# Altium footprint library BibliotecaASR1000.PcbLib: 3 footprints
Each footprint in its own frame and in the unit in brackets; x right, y up, seen from the top. Pads: shape width x height; smd on the part's side, far side on the other; paste and mask are expansions set on the pad; w line width, h text height; cw(c..) or ccw(c..) is an arc to the next point about the centre after c.
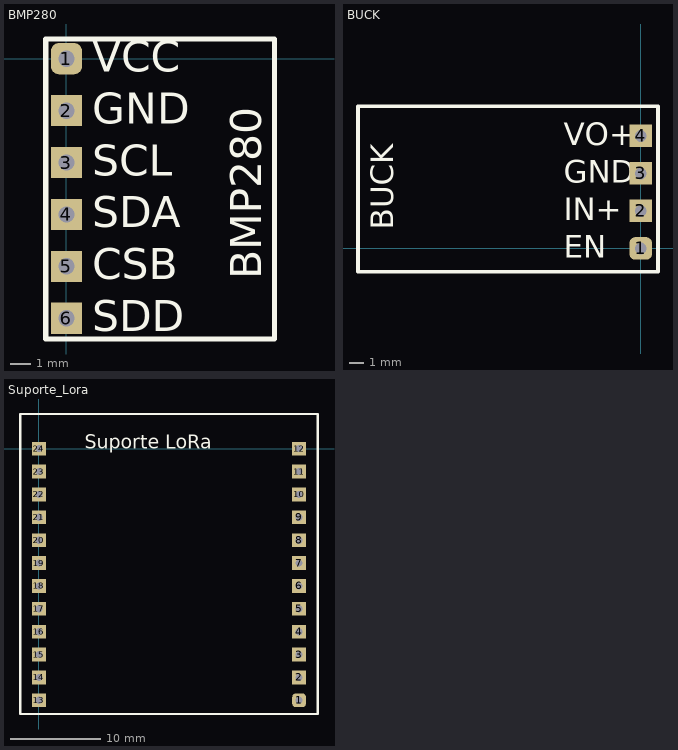
[diagram p0: the footprints below, top view; thin cyan lines are the x and y axes]

## BMP280 [mil] "BMP280 usado no projeto ASR1000."
pads (6):
  rrect50% 60x60 hole 31.5: 1(0,0)
  rect 60x60 hole 31.5: 2(0,-100) 3(0,-200) 4(0,-300) 5(0,-400) 6(0,-500)
Top Overlay:
  lines w10: -40,-540 401,-540 401,38 -40,38 -40,-540
  text "BMP280" at 375,-425 h60
  text "VCC" at 50,-25 h60
  text "SDD" at 50,-525 h60
  text "CSB" at 50,-425 h60
  text "SDA" at 50,-325 h60
  text "GND" at 50,-125 h60
  text "SCL" at 50,-225 h60

## BUCK [mil] "Buck usado no projeto ASR1000."
pads (4):
  rrect50% 60x60 hole 31.5: 1(0,0)
  rect 60x60 hole 31.5: 2(0,100) 3(0,200) 4(0,300)
Top Overlay:
  lines w10: -754,-62 -754,379 46,379 46,-62 -754,-62
  text "VO+" at -205,275 h60
  text "GND" at -205,175 h60
  text "IN+" at -205,75 h60
  text "EN" at -205,-25 h60
  text "BUCK" at -660,50 h60

## Suporte_Lora [mil] "Suporte do LoRa para o projeto ASR1000."
pads (24):
  rrect50% 60x60 hole 31.5: 1(1137.01,-1100)
  rect 60x60 hole 31.5: 2(1137.01,-1000) 3(1137.01,-900) 4(1137.01,-800) 5(1137.01,-700) 6(1137.01,-600) 7(1137.01,-500) 8(1137.01,-400) 9(1137.01,-300) 10(1137.01,-200) 11(1137.01,-100) 12(1137.01,0) 13(0,-1100) 14(0,-1000) 15(0,-900) 16(0,-800) 17(0,-700) 18(0,-600) 19(0,-500) 20(0,-400) 21(0,-300) 22(0,-200) 23(0,-100) 24(0,0)
Top Overlay:
  lines w10: -81.5,-1159.71 -81.5,151.28 1218.51,151.28 1218.51,-1159.71 -81.5,-1159.71
  text "Suporte LoRa" at 200,0 h60